# Altium footprint library Miscellaneous Connectors.PcbLib: 184 footprints (part 5 of 12)
Each footprint in its own frame and in the unit in brackets; x right, y up, seen from the top. Pads: shape width x height; smd on the part's side, far side on the other; paste and mask are expansions set on the pad; w line width, h text height; cw(c..) or ccw(c..) is an arc to the next point about the centre after c.
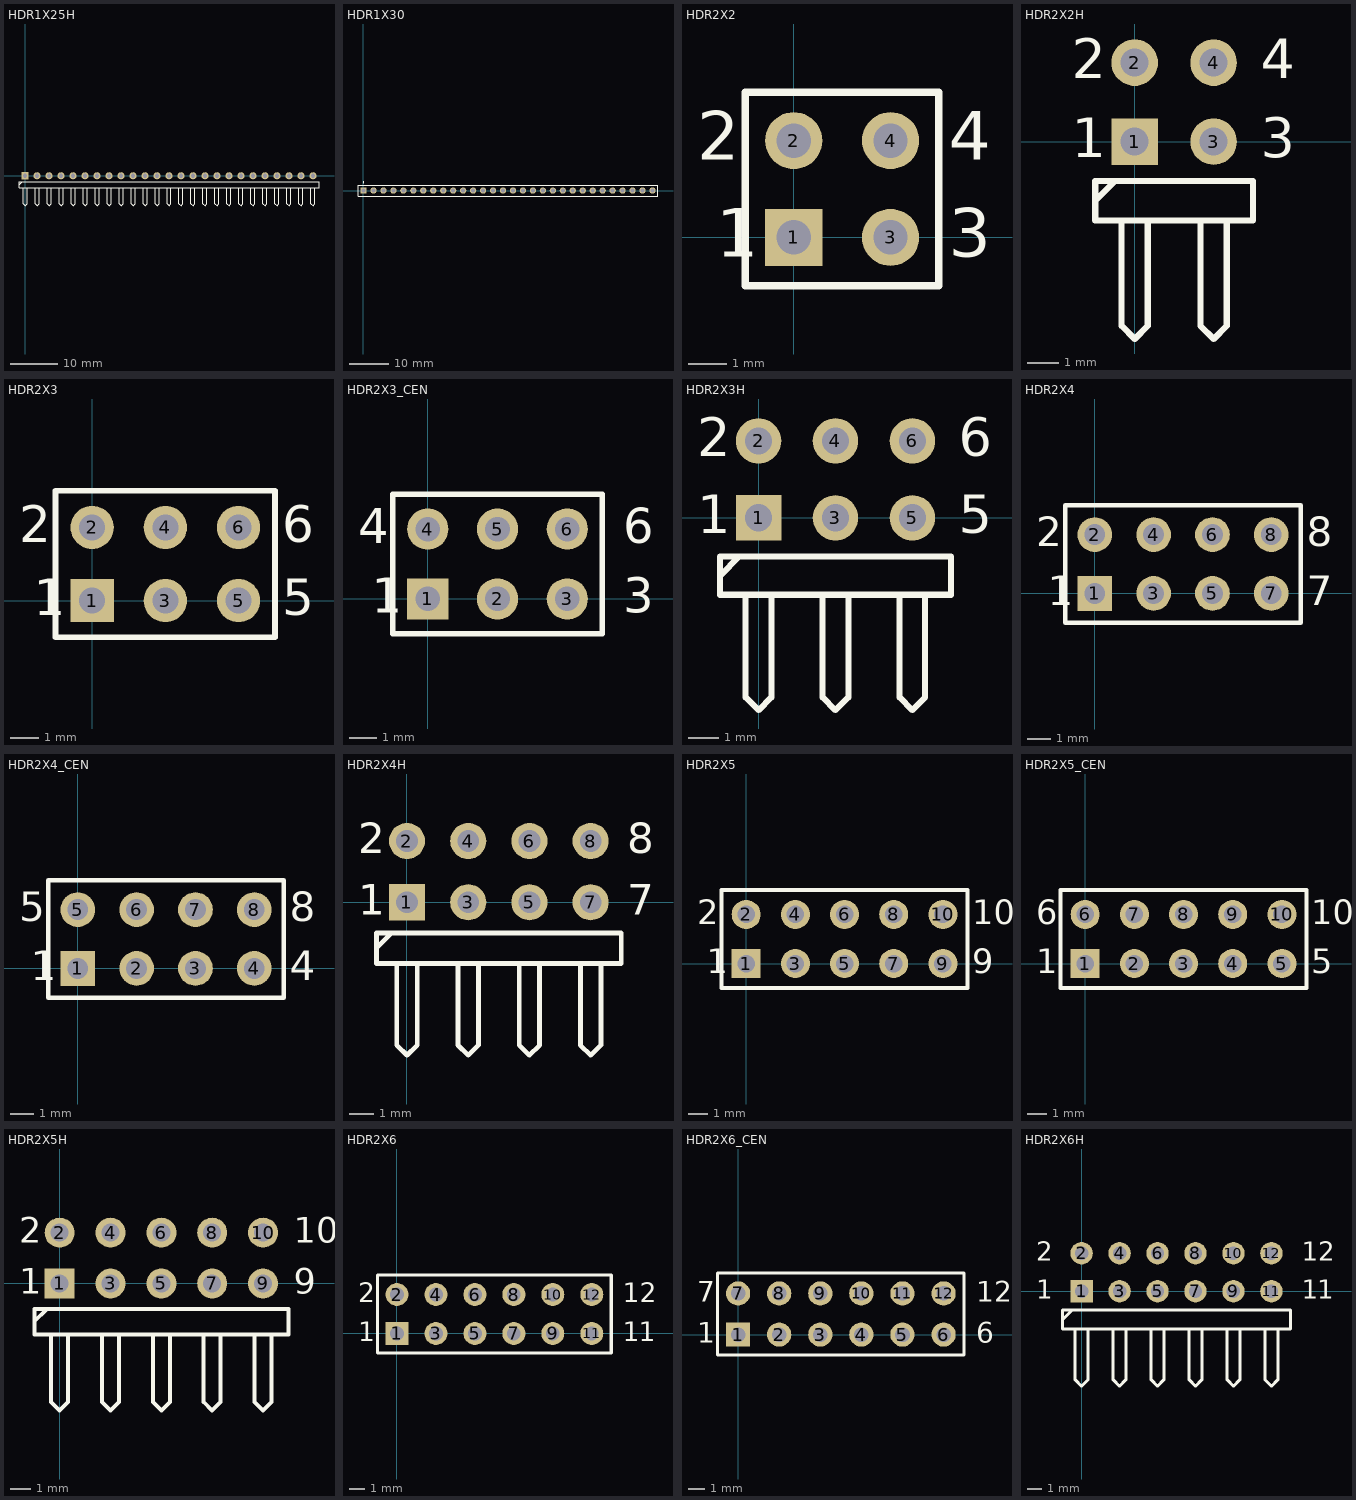
[diagram p4: the footprints below, top view; thin cyan lines are the x and y axes]

## HDR1X25H [mm] "Connector; Header; 25 Position; Right Angle"
pads (25):
  rect 1.5x1.5 hole 0.9: 1(0,0)
  round 1.5 hole 0.9: 2(2.54,0) 3(5.08,0) 4(7.62,0) 5(10.16,0) 6(12.7,0) 7(15.24,0) 8(17.78,0) 9(20.32,0) 10(22.86,0) 11(25.4,0) 12(27.94,0) 13(30.48,0) 14(33.02,0) 15(35.56,0) 16(38.1,0) 17(40.64,0) 18(43.18,0) 19(45.72,0) 20(48.26,0) 21(50.8,0) 22(53.34,0) 23(55.88,0) 24(58.42,0) 25(60.96,0)
Top Overlay:
  lines w0.2: -1.27,-1.905 -0.635,-1.27 ; -0.423,-2.54 -0.423,-5.927 0,-6.35 0.423,-5.927 0.423,-2.54 ; 2.117,-2.54 2.117,-5.927 2.54,-6.35 2.963,-5.927 2.963,-2.54 ; 4.657,-2.54 4.657,-5.927 5.08,-6.35 5.503,-5.927 5.503,-2.54 ; 7.197,-2.54 7.197,-5.927 7.62,-6.35 8.043,-5.927 8.043,-2.54 ; 9.737,-2.54 9.737,-5.927 10.16,-6.35 10.583,-5.927 10.583,-2.54 ; 12.277,-2.54 12.277,-5.927 12.7,-6.35 13.123,-5.927 13.123,-2.54 ; 14.817,-2.54 14.817,-5.927 15.24,-6.35 15.663,-5.927 15.663,-2.54 ; 17.357,-2.54 17.357,-5.927 17.78,-6.35 18.203,-5.927 18.203,-2.54 ; 19.897,-2.54 19.897,-5.927 20.32,-6.35 20.743,-5.927 20.743,-2.54 ; 22.437,-2.54 22.437,-5.927 22.86,-6.35 23.283,-5.927 23.283,-2.54 ; 24.977,-2.54 24.977,-5.927 25.4,-6.35 25.823,-5.927 25.823,-2.54 ; 27.517,-2.54 27.517,-5.927 27.94,-6.35 28.363,-5.927 28.363,-2.54 ; 30.057,-2.54 30.057,-5.927 30.48,-6.35 30.903,-5.927 30.903,-2.54 ; 32.597,-2.54 32.597,-5.927 33.02,-6.35 33.443,-5.927 33.443,-2.54 ; 35.137,-2.54 35.137,-5.927 35.56,-6.35 35.983,-5.927 35.983,-2.54 ; 37.677,-2.54 37.677,-5.927 38.1,-6.35 38.523,-5.927 38.523,-2.54 ; 40.217,-2.54 40.217,-5.927 40.64,-6.35 41.063,-5.927 41.063,-2.54 ; 42.757,-2.54 42.757,-5.927 43.18,-6.35 43.603,-5.927 43.603,-2.54 ; 45.297,-2.54 45.297,-5.927 45.72,-6.35 46.143,-5.927 46.143,-2.54 ; 47.837,-2.54 47.837,-5.927 48.26,-6.35 48.683,-5.927 48.683,-2.54 ; 50.377,-2.54 50.377,-5.927 50.8,-6.35 51.223,-5.927 51.223,-2.54 ; 52.917,-2.54 52.917,-5.927 53.34,-6.35 53.763,-5.927 53.763,-2.54 ; 55.457,-2.54 55.457,-5.927 55.88,-6.35 56.303,-5.927 56.303,-2.54 ; 57.997,-2.54 57.997,-5.927 58.42,-6.35 58.843,-5.927 58.843,-2.54 ; 60.537,-2.54 60.537,-5.927 60.96,-6.35 61.383,-5.927 61.383,-2.54 ; -1.27,-2.54 -1.27,-1.27 0.635,-1.27 62.23,-1.27 62.23,-2.54 -1.27,-2.54

## HDR1X30 [mm] "Connector; Header; 30 Position"
pads (30):
  rect 1.6x1.6 hole 0.99: 1(0,0)
  round 1.6 hole 0.99: 2(2.54,0) 3(5.08,0) 4(7.62,0) 5(10.16,0) 6(12.7,0) 7(15.24,0) 8(17.78,0) 9(20.32,0) 10(22.86,0) 11(25.4,0) 12(27.94,0) 13(30.48,0) 14(33.02,0) 15(35.56,0) 16(38.1,0) 17(40.64,0) 18(43.18,0) 19(45.72,0) 20(48.26,0) 21(50.8,0) 22(53.34,0) 23(55.88,0) 24(58.42,0) 25(60.96,0) 26(63.5,0) 27(66.04,0) 28(68.58,0) 29(71.12,0) 30(73.66,0)
Top Overlay:
  circle w0.25: c0,2.05 r0.125
  lines w0.2: -1.4,-1.4 -1.4,1.4 75.06,1.4 75.06,-1.4 -1.4,-1.4

## HDR2X2 [mm] "Connector; Header; 2x2 Position"
pads (4):
  rect 1.5x1.5 hole 0.9: 1(0,0)
  round 1.5 hole 0.9: 2(0,2.54) 3(2.54,0) 4(2.54,2.54)
Top Overlay:
  lines w0.2: -1.27,-1.27 3.81,-1.27 3.81,3.81 -1.27,3.81 -1.27,-1.27
  text "3" at 4.064,-0.508 h1.27
  text "4" at 4.064,2.032 h1.27
  text "2" at -2.54,2.032 h1.27
  text "1" at -2.032,-0.508 h1.27

## HDR2X2H [mm] "Connector; Header; 2x2 Position; Right Angle"
pads (4):
  rect 1.5x1.5 hole 0.9: 1(0,0)
  round 1.5 hole 0.9: 2(0,2.54) 3(2.54,0) 4(2.54,2.54)
Top Overlay:
  lines w0.2: -1.27,-1.905 -0.635,-1.27 ; -0.423,-2.54 -0.423,-5.927 0,-6.35 0.423,-5.927 0.423,-2.54 ; 2.117,-2.54 2.117,-5.927 2.54,-6.35 2.963,-5.927 2.963,-2.54 ; -1.27,-2.54 3.81,-2.54 3.81,-1.27 -1.27,-1.27 -1.27,-2.54
  text "3" at 4.064,-0.508 h1.27
  text "4" at 4.064,2.032 h1.27
  text "2" at -2.032,2.032 h1.27
  text "1" at -2.032,-0.508 h1.27

## HDR2X3 [mm] "Connector; Header; 3x2 Position"
pads (6):
  rect 1.5x1.5 hole 0.9: 1(0,0)
  round 1.5 hole 0.9: 2(0,2.54) 3(2.54,0) 4(2.54,2.54) 5(5.08,0) 6(5.08,2.54)
Top Overlay:
  lines w0.2: 1.482,-1.27 6.35,-1.27 ; 6.35,-1.27 -1.27,-1.27 -1.27,3.81 6.35,3.81 6.35,-1.27
  text "1" at -2.032,-0.508 h1.27
  text "2" at -2.54,2.032 h1.27
  text "5" at 6.604,-0.508 h1.27
  text "6" at 6.604,2.032 h1.27

## HDR2X3_CEN [mm] "Connector; Header; 3x2 Position"
pads (6):
  rect 1.5x1.5 hole 0.9: 1(0,0)
  round 1.5 hole 0.9: 2(2.54,0) 3(5.08,0) 4(0,2.54) 5(2.54,2.54) 6(5.08,2.54)
Top Overlay:
  lines w0.2: -1.27,-1.27 6.35,-1.27 6.35,3.81 -1.27,3.81 -1.27,-1.27
  text "6" at 7.112,2.032 h1.27
  text "3" at 7.112,-0.508 h1.27
  text "1" at -2.032,-0.508 h1.27
  text "4" at -2.54,2.032 h1.27

## HDR2X3H [mm] "Connector; Header; 3x2 Position; Right Angle"
pads (6):
  rect 1.5x1.5 hole 0.9: 1(0,0)
  round 1.5 hole 0.9: 2(0,2.54) 3(2.54,0) 4(2.54,2.54) 5(5.08,0) 6(5.08,2.54)
Top Overlay:
  lines w0.2: -1.27,-1.905 -0.635,-1.27 ; -0.423,-2.54 -0.423,-5.927 0,-6.35 0.423,-5.927 0.423,-2.54 ; 2.117,-2.54 2.117,-5.927 2.54,-6.35 2.963,-5.927 2.963,-2.54 ; 4.657,-2.54 4.657,-5.927 5.08,-6.35 5.503,-5.927 5.503,-2.54 ; -1.27,-2.54 -1.27,-1.27 6.35,-1.27 6.35,-2.54 -1.27,-2.54
  text "6" at 6.604,2.032 h1.27
  text "5" at 6.604,-0.508 h1.27
  text "1" at -2.032,-0.508 h1.27
  text "2" at -2.032,2.032 h1.27

## HDR2X4 [mm] "Connector; Header; 4x2 Position"
pads (8):
  rect 1.5x1.5 hole 0.9: 1(0,0)
  round 1.5 hole 0.9: 2(0,2.54) 3(2.54,0) 4(2.54,2.54) 5(5.08,0) 6(5.08,2.54) 7(7.62,0) 8(7.62,2.54)
Top Overlay:
  lines w0.2: -1.27,-1.27 -1.27,3.81 8.89,3.81 8.89,-1.27 -1.27,-1.27
  text "8" at 9.144,2.032 h1.27
  text "7" at 9.144,-0.508 h1.27
  text "1" at -2.032,-0.508 h1.27
  text "2" at -2.54,2.032 h1.27

## HDR2X4_CEN [mm] "Connector; Header; 4x2 Position"
pads (8):
  rect 1.5x1.5 hole 0.9: 1(0,0)
  round 1.5 hole 0.9: 2(2.54,0) 3(5.08,0) 4(7.62,0) 5(0,2.54) 6(2.54,2.54) 7(5.08,2.54) 8(7.62,2.54)
Top Overlay:
  lines w0.2: -1.27,-1.27 -1.27,3.81 8.89,3.81 8.89,-1.27 -1.27,-1.27
  text "8" at 9.144,2.032 h1.27
  text "4" at 9.144,-0.508 h1.27
  text "1" at -2.032,-0.508 h1.27
  text "5" at -2.54,2.032 h1.27

## HDR2X4H [mm] "Connector; Header; 4x2 Position; Right Angle"
pads (8):
  rect 1.5x1.5 hole 0.9: 1(0,0)
  round 1.5 hole 0.9: 2(0,2.54) 3(2.54,0) 4(2.54,2.54) 5(5.08,0) 6(5.08,2.54) 7(7.62,0) 8(7.62,2.54)
Top Overlay:
  lines w0.2: -1.27,-1.905 -0.635,-1.27 ; -0.423,-2.54 -0.423,-5.927 0,-6.35 0.423,-5.927 0.423,-2.54 ; 2.117,-2.54 2.117,-5.927 2.54,-6.35 2.963,-5.927 2.963,-2.54 ; 4.657,-2.54 4.657,-5.927 5.08,-6.35 5.503,-5.927 5.503,-2.54 ; 7.197,-2.54 7.197,-5.927 7.62,-6.35 8.043,-5.927 8.043,-2.54 ; -1.27,-2.54 8.89,-2.54 8.89,-1.27 -1.27,-1.27 -1.27,-2.54
  text "2" at -2.032,2.032 h1.27
  text "1" at -2.032,-0.508 h1.27
  text "7" at 9.144,-0.508 h1.27
  text "8" at 9.144,2.032 h1.27

## HDR2X5 [mm] "Connector; Header; 5x2 Position"
pads (10):
  rect 1.5x1.5 hole 0.9: 1(0,0)
  round 1.5 hole 0.9: 2(0,2.54) 3(2.54,0) 4(2.54,2.54) 5(5.08,0) 6(5.08,2.54) 7(7.62,0) 8(7.62,2.54) 9(10.16,0) 10(10.16,2.54)
Top Overlay:
  lines w0.2: -1.27,-1.27 -1.27,3.81 11.43,3.81 11.43,-1.27 -1.27,-1.27
  text "2" at -2.54,2.032 h1.27
  text "1" at -2.032,-0.508 h1.27
  text "9" at 11.684,-0.508 h1.27
  text "10" at 11.684,2.032 h1.27

## HDR2X5_CEN [mm] "Connector; Header; 5x2 Position"
pads (10):
  rect 1.5x1.5 hole 0.9: 1(0,0)
  round 1.5 hole 0.9: 2(2.54,0) 3(5.08,0) 4(7.62,0) 5(10.16,0) 6(0,2.54) 7(2.54,2.54) 8(5.08,2.54) 9(7.62,2.54) 10(10.16,2.54)
Top Overlay:
  lines w0.2: -1.27,-1.27 11.43,-1.27 11.43,3.81 -1.27,3.81 -1.27,-1.27
  text "1" at -2.54,-0.508 h1.27
  text "5" at 11.684,-0.508 h1.27
  text "10" at 11.684,2.032 h1.27
  text "6" at -2.54,2.032 h1.27

## HDR2X5H [mm] "Connector; Header; 5x2 Position; Right Angle"
pads (10):
  rect 1.5x1.5 hole 0.9: 1(0,0)
  round 1.5 hole 0.9: 2(0,2.54) 3(2.54,0) 4(2.54,2.54) 5(5.08,0) 6(5.08,2.54) 7(7.62,0) 8(7.62,2.54) 9(10.16,0) 10(10.16,2.54)
Top Overlay:
  lines w0.2: -1.27,-1.905 -0.635,-1.27 ; -0.423,-2.54 -0.423,-5.927 0,-6.35 0.423,-5.927 0.423,-2.54 ; 2.117,-2.54 2.117,-5.927 2.54,-6.35 2.963,-5.927 2.963,-2.54 ; 4.657,-2.54 4.657,-5.927 5.08,-6.35 5.503,-5.927 5.503,-2.54 ; 7.197,-2.54 7.197,-5.927 7.62,-6.35 8.043,-5.927 8.043,-2.54 ; 9.737,-2.54 9.737,-5.927 10.16,-6.35 10.583,-5.927 10.583,-2.54 ; -1.27,-2.54 11.43,-2.54 11.43,-1.27 -1.27,-1.27 -1.27,-2.54
  text "2" at -2.032,2.032 h1.27
  text "1" at -2.032,-0.508 h1.27
  text "9" at 11.684,-0.508 h1.27
  text "10" at 11.684,2.032 h1.27

## HDR2X6 [mm] "Connector; Header; 6x2 Position"
pads (12):
  rect 1.5x1.5 hole 0.9: 1(0,0)
  round 1.5 hole 0.9: 2(0,2.54) 3(2.54,0) 4(2.54,2.54) 5(5.08,0) 6(5.08,2.54) 7(7.62,0) 8(7.62,2.54) 9(10.16,0) 10(10.16,2.54) 11(12.7,0) 12(12.7,2.54)
Top Overlay:
  lines w0.2: -1.27,-1.27 -1.27,3.81 13.97,3.81 13.97,-1.27 -1.27,-1.27
  text "2" at -2.54,2.032 h1.27
  text "1" at -2.54,-0.508 h1.27
  text "1" at 14.732,-0.508 h1.27
  text "1" at 15.748,-0.508 h1.27
  text "12" at 14.732,2.032 h1.27

## HDR2X6_CEN [mm] "Connector; Header; 6x2 Position"
pads (12):
  rect 1.5x1.5 hole 0.9: 1(0,0)
  round 1.5 hole 0.9: 2(2.54,0) 3(5.08,0) 4(7.62,0) 5(10.16,0) 6(12.7,0) 7(0,2.54) 8(2.54,2.54) 9(5.08,2.54) 10(7.62,2.54) 11(10.16,2.54) 12(12.7,2.54)
Top Overlay:
  lines w0.2: -1.27,-1.27 13.97,-1.27 13.97,3.81 -1.27,3.81 -1.27,-1.27
  text "12" at 14.732,2.032 h1.27
  text "6" at 14.732,-0.508 h1.27
  text "1" at -2.54,-0.508 h1.27
  text "7" at -2.54,2.032 h1.27

## HDR2X6H [mm] "Connector; Header; 6x2 Position; Right Angle"
pads (12):
  rect 1.5x1.5 hole 0.9: 1(0,0)
  round 1.5 hole 0.9: 2(0,2.54) 3(2.54,0) 4(2.54,2.54) 5(5.08,0) 6(5.08,2.54) 7(7.62,0) 8(7.62,2.54) 9(10.16,0) 10(10.16,2.54) 11(12.7,0) 12(12.7,2.54)
Top Overlay:
  lines w0.2: -1.27,-1.905 -0.635,-1.27 ; -0.423,-2.54 -0.423,-5.927 0,-6.35 0.423,-5.927 0.423,-2.54 ; 2.117,-2.54 2.117,-5.927 2.54,-6.35 2.963,-5.927 2.963,-2.54 ; 4.657,-2.54 4.657,-5.927 5.08,-6.35 5.503,-5.927 5.503,-2.54 ; 7.197,-2.54 7.197,-5.927 7.62,-6.35 8.043,-5.927 8.043,-2.54 ; 9.737,-2.54 9.737,-5.927 10.16,-6.35 10.583,-5.927 10.583,-2.54 ; 12.277,-2.54 12.277,-5.927 12.7,-6.35 13.123,-5.927 13.123,-2.54 ; -1.27,-2.54 13.97,-2.54 13.97,-1.27 -1.27,-1.27 -1.27,-2.54
  text "2" at -3.048,2.032 h1.27
  text "1" at -3.048,-0.508 h1.27
  text "1" at 14.732,-0.508 h1.27
  text "1" at 15.748,-0.508 h1.27
  text "12" at 14.732,2.032 h1.27